# Altium footprint library SSOP.PcbLib: 21 footprints (part 2 of 2)
Each footprint in its own frame and in the unit in brackets; x right, y up, seen from the top. Pads: shape width x height; smd on the part's side, far side on the other; paste and mask are expansions set on the pad; w line width, h text height; cw(c..) or ccw(c..) is an arc to the next point about the centre after c.
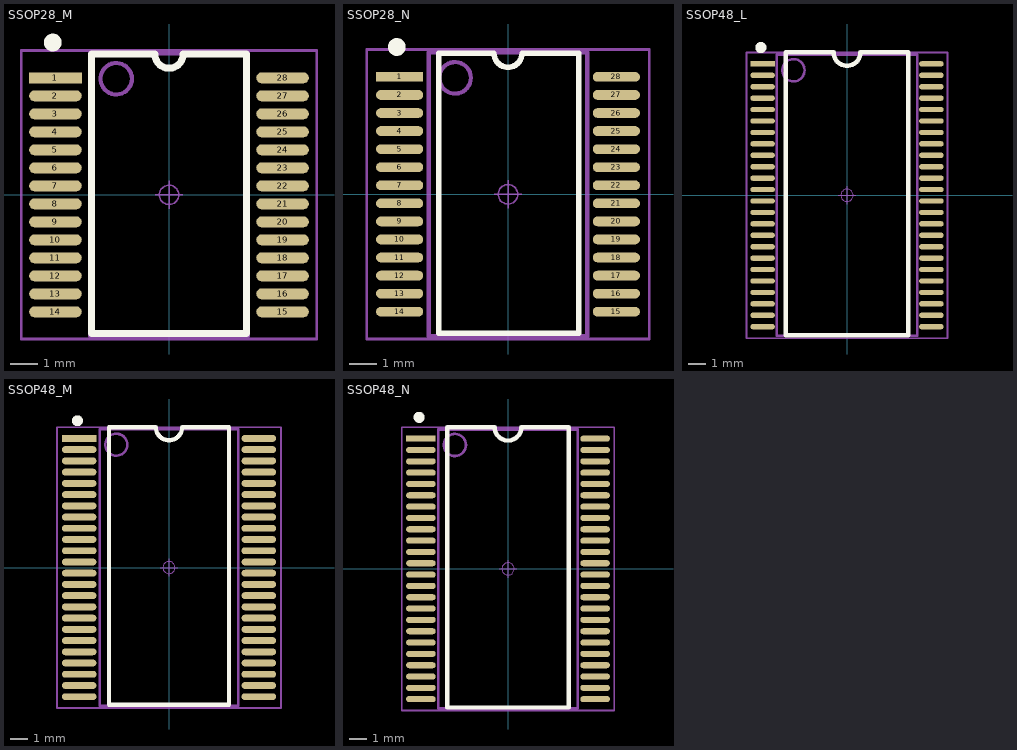
[diagram p1: the footprints below, top view; thin cyan lines are the x and y axes]

## SSOP28_M [mm] "10.2*7.8*1.9mm(长宽高）"
pads (28):
  rect 1.9x0.4 smd: 1(-4.1,4.225)
  oval 1.9x0.4 smd: 2(-4.1,3.575) 3(-4.1,2.925) 4(-4.1,2.275) 5(-4.1,1.625) 6(-4.1,0.975) 7(-4.1,0.325) 8(-4.1,-0.325) 9(-4.1,-0.975) 10(-4.1,-1.625) 11(-4.1,-2.275) 12(-4.1,-2.925) 13(-4.1,-3.575) 14(-4.1,-4.225) 15(4.1,-4.225) 16(4.1,-3.575) 17(4.1,-2.925) 18(4.1,-2.275) 19(4.1,-1.625) 20(4.1,-0.975) 21(4.1,-0.325) 22(4.1,0.325) 23(4.1,0.975) 24(4.1,1.625) 25(4.1,2.275) 26(4.1,2.925) 27(4.1,3.575) 28(4.1,4.225)
Top Overlay:
  circle w0.381: c-4.2,5.5 r0.127
  lines w0.254: -2.804,-5 2.796,-5 2.796,5.08 0.508,5.08 cw(c0,5.08) -0.508,5.08 -2.804,5.08 -2.804,-5
Mechanical 13:
  circle w0.15: c-1.905,4.191 r0.568
  lines w0.15: -2.85,-5.1 -2.85,5.1 2.85,5.1 2.85,-5.1 -2.85,-5.1
Mechanical 15:
  circle w0.05: c0,0 r0.35
  lines w0.05: -0.5,0 0.5,0 ; 0,-0.5 0,0.5
  lines w0.1: -5.334,-5.207 -5.334,5.207 5.334,5.207 5.334,-5.207 -5.334,-5.207
3D body: height 1.65, standoff -0.03, extent -3.852,-5.1 3.852,5.1

## SSOP28_N [mm] "10.2*7.8*1.9mm(长宽高）"
pads (28):
  rect 1.7x0.35 smd: 1(-3.9,4.225)
  oval 1.7x0.35 smd: 2(-3.9,3.575) 3(-3.9,2.925) 4(-3.9,2.275) 5(-3.9,1.625) 6(-3.9,0.975) 7(-3.9,0.325) 8(-3.9,-0.325) 9(-3.9,-0.975) 10(-3.9,-1.625) 11(-3.9,-2.275) 12(-3.9,-2.925) 13(-3.9,-3.575) 14(-3.9,-4.225) 15(3.9,-4.225) 16(3.9,-3.575) 17(3.9,-2.925) 18(3.9,-2.275) 19(3.9,-1.625) 20(3.9,-0.975) 21(3.9,-0.325) 22(3.9,0.325) 23(3.9,0.975) 24(3.9,1.625) 25(3.9,2.275) 26(3.9,2.925) 27(3.9,3.575) 28(3.9,4.225)
Top Overlay:
  circle w0.381: c-4,5.3 r0.127
  lines w0.203: -2.489,-5 -2.489,5.08 -0.508,5.08 ccw(c0,5.08) 0.508,5.08 2.54,5.08 2.54,-5 -2.489,-5
Mechanical 13:
  circle w0.15: c-1.905,4.191 r0.568
  lines w0.15: -2.85,-5.1 2.85,-5.1 2.85,5.1 -2.85,5.1 -2.85,-5.1
Mechanical 15:
  circle w0.05: c0,0 r0.35
  lines w0.05: -0.5,0 0.5,0 ; 0,-0.5 0,0.5
  lines w0.1: -5.08,-5.207 5.08,-5.207 5.08,5.207 -5.08,5.207 -5.08,-5.207
3D body: height 1.65, standoff -0.03, extent -3.852,-5.1 3.852,5.1

## SSOP48_L [mm] "16*10.3*2.4mm（长宽高）"
pads (48):
  rect 1.4x0.3 smd: 1(-4.8,7.475)
  oval 1.4x0.3 smd: 2(-4.8,6.825) 3(-4.8,6.175) 4(-4.8,5.525) 5(-4.8,4.875) 6(-4.8,4.225) 7(-4.8,3.575) 8(-4.8,2.925) 9(-4.8,2.275) 10(-4.8,1.625) 11(-4.8,0.975) 12(-4.8,0.325) 13(-4.8,-0.325) 14(-4.8,-0.975) 15(-4.8,-1.625) 16(-4.8,-2.275) 17(-4.8,-2.925) 18(-4.8,-3.575) 19(-4.8,-4.225) 20(-4.8,-4.875) 21(-4.8,-5.525) 22(-4.8,-6.175) 23(-4.8,-6.825) 24(-4.8,-7.475) 25(4.8,-7.475) 26(4.8,-6.825) 27(4.8,-6.175) 28(4.8,-5.525) 29(4.8,-4.875) 30(4.8,-4.225) 31(4.8,-3.575) 32(4.8,-2.925) 33(4.8,-2.275) 34(4.8,-1.625) 35(4.8,-0.975) 36(4.8,-0.325) 37(4.8,0.325) 38(4.8,0.975) 39(4.8,1.625) 40(4.8,2.275) 41(4.8,2.925) 42(4.8,3.575) 43(4.8,4.225) 44(4.8,4.875) 45(4.8,5.525) 46(4.8,6.175) 47(4.8,6.825) 48(4.8,7.475)
Top Overlay:
  circle w0.381: c-4.9,8.4 r0.127
  lines w0.254: -3.475,-7.95 -3.475,8.128 -0.762,8.128 ccw(c0,8.128) 0.762,8.128 3.475,8.128 3.475,-7.95 -3.475,-7.95
Mechanical 13:
  circle w0.15: c-3.048,7.112 r0.635
  lines w0.15: -4,-8 4,-8 4,8 -4,8 -4,-8
Mechanical 15:
  circle w0.05: c0,0 r0.35
  lines w0.05: -0.5,0 0.5,0 ; 0,-0.5 0,0.5
  lines w0.1: -5.715,-8.128 -5.715,8.128 5.715,8.128 5.715,-8.128 -5.715,-8.128
3D body: height 2.45, standoff -0.03, extent -5.002,-8 5.002,8

## SSOP48_M [mm] "16*10.3*2.4mm（长宽高）"
pads (48):
  rect 2x0.4 smd: 1(-5.2,7.475)
  oval 2x0.4 smd: 2(-5.2,6.825) 3(-5.2,6.175) 4(-5.2,5.525) 5(-5.2,4.875) 6(-5.2,4.225) 7(-5.2,3.575) 8(-5.2,2.925) 9(-5.2,2.275) 10(-5.2,1.625) 11(-5.2,0.975) 12(-5.2,0.325) 13(-5.2,-0.325) 14(-5.2,-0.975) 15(-5.2,-1.625) 16(-5.2,-2.275) 17(-5.2,-2.925) 18(-5.2,-3.575) 19(-5.2,-4.225) 20(-5.2,-4.875) 21(-5.2,-5.525) 22(-5.2,-6.175) 23(-5.2,-6.825) 24(-5.2,-7.475) 25(5.2,-7.475) 26(5.2,-6.825) 27(5.2,-6.175) 28(5.2,-5.525) 29(5.2,-4.875) 30(5.2,-4.225) 31(5.2,-3.575) 32(5.2,-2.925) 33(5.2,-2.275) 34(5.2,-1.625) 35(5.2,-0.975) 36(5.2,-0.325) 37(5.2,0.325) 38(5.2,0.975) 39(5.2,1.625) 40(5.2,2.275) 41(5.2,2.925) 42(5.2,3.575) 43(5.2,4.225) 44(5.2,4.875) 45(5.2,5.525) 46(5.2,6.175) 47(5.2,6.825) 48(5.2,7.475)
Top Overlay:
  circle w0.381: c-5.3,8.5 r0.127
  lines w0.254: -3.475,-7.95 3.475,-7.95 3.475,8.128 0.762,8.128 cw(c0,8.128) -0.762,8.128 -3.475,8.128 -3.475,-7.95
Mechanical 13:
  circle w0.15: c-3.048,7.112 r0.635
  lines w0.15: -4,-8 -4,8 4,8 4,-8 -4,-8
Mechanical 15:
  circle w0.05: c0,0 r0.35
  lines w0.05: -0.5,0 0.5,0 ; 0,-0.5 0,0.5
  lines w0.1: -6.477,-8.128 -6.477,8.128 6.477,8.128 6.477,-8.128 -1.778,-8.128 -6.477,-8.128
3D body: height 2.45, standoff -0.03, extent -5.002,-8 5.002,8

## SSOP48_N [mm] "16*10.3*2.4mm（长宽高）"
pads (48):
  rect 1.7x0.35 smd: 1(-5,7.475)
  oval 1.7x0.35 smd: 2(-5,6.825) 3(-5,6.175) 4(-5,5.525) 5(-5,4.875) 6(-5,4.225) 7(-5,3.575) 8(-5,2.925) 9(-5,2.275) 10(-5,1.625) 11(-5,0.975) 12(-5,0.325) 13(-5,-0.325) 14(-5,-0.975) 15(-5,-1.625) 16(-5,-2.275) 17(-5,-2.925) 18(-5,-3.575) 19(-5,-4.225) 20(-5,-4.875) 21(-5,-5.525) 22(-5,-6.175) 23(-5,-6.825) 24(-5,-7.475) 25(5,-7.475) 26(5,-6.825) 27(5,-6.175) 28(5,-5.525) 29(5,-4.875) 30(5,-4.225) 31(5,-3.575) 32(5,-2.925) 33(5,-2.275) 34(5,-1.625) 35(5,-0.975) 36(5,-0.325) 37(5,0.325) 38(5,0.975) 39(5,1.625) 40(5,2.275) 41(5,2.925) 42(5,3.575) 43(5,4.225) 44(5,4.875) 45(5,5.525) 46(5,6.175) 47(5,6.825) 48(5,7.475)
Top Overlay:
  circle w0.381: c-5.1,8.7 r0.127
  lines w0.254: -3.475,-7.95 -3.475,8.128 -0.762,8.128 ccw(c0,8.128) 0.762,8.128 3.475,8.128 3.475,-7.95 -3.475,-7.95
Mechanical 13:
  circle w0.15: c-3.048,7.112 r0.635
  lines w0.15: -4,-8 4,-8 4,8 -4,8 -4,-8
Mechanical 15:
  circle w0.05: c0,0 r0.35
  lines w0.05: -0.5,0 0.5,0 ; 0,-0.5 0,0.5
  lines w0.1: -6.096,-8.128 -6.096,8.128 6.096,8.128 6.096,-8.128 -6.096,-8.128
3D body: height 2.45, standoff -0.03, extent -5.002,-8 5.002,8